# Altium footprint library Sheye-IC.PcbLib: 58 footprints (part 4 of 4)
Each footprint in its own frame and in the unit in brackets; x right, y up, seen from the top. Pads: shape width x height; smd on the part's side, far side on the other; paste and mask are expansions set on the pad; w line width, h text height; cw(c..) or ccw(c..) is an arc to the next point about the centre after c.
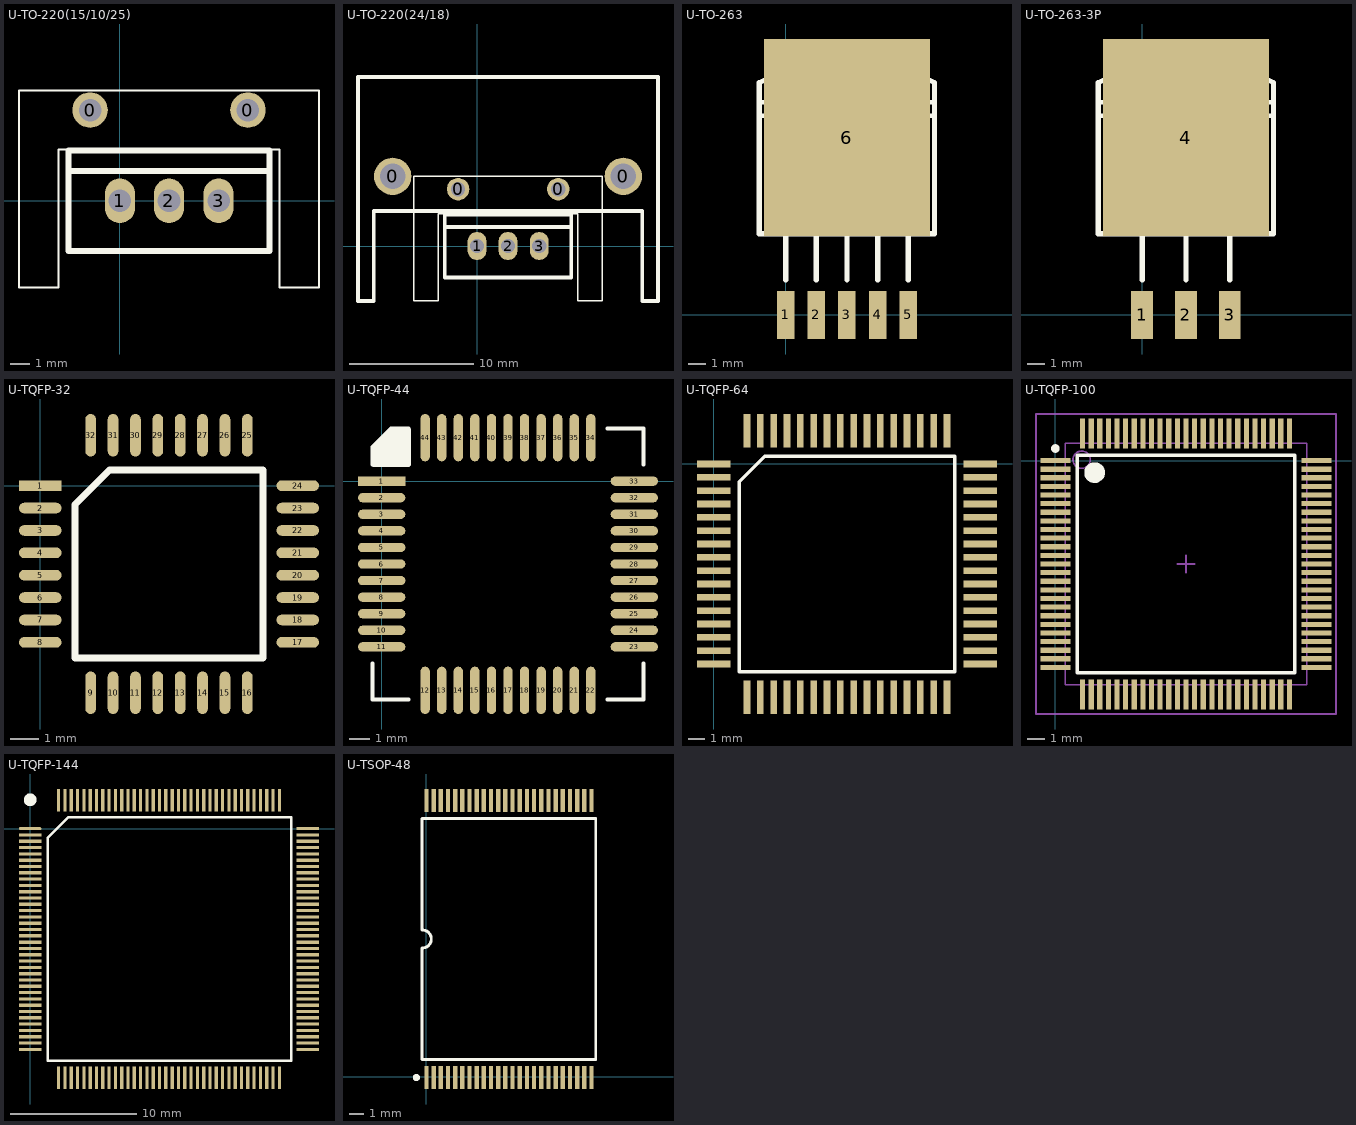
[diagram p3: the footprints below, top view; thin cyan lines are the x and y axes]

## U-TO-220(15/10/25) [mil]
pads (5):
  round 70.87 hole 45: 0(-59.48,181.1) 0(255.48,181.1)
  oval 60x89 hole 45: 1(0,0) 2(98,0) 3(197,0)
Top Overlay:
  lines w4: -201.21,-173.23 -122.47,-173.23 -122.47,102.36 318.47,102.36 318.47,-173.23 397.21,-173.23 397.21,220.47 -201.21,220.47 -201.21,-173.23
  lines w12: -102,60 298,60 ; -102,-100 298,-100 298,100 -102,100 -102,-100
3D body: height 150, standoff -40, extent 176,-4 216,6
3D body: height 150, standoff -40, extent 77,-4 117,6
3D body: height 150, standoff -40, extent -21,-4 19,6
3D body: height 850, standoff 550, extent -101,61 299,101
3D body: height 550, standoff 150, extent -101,-79 299,101
3D body: height 984.25, standoff 0, extent -201.19,-173.21 397.19,220.45

## U-TO-220(24/18) [mil]
pads (7):
  round 118.11 hole 80: 0(-267,220.5) 0(463,220.5)
  round 70.87 hole 45: 0(-60,180) 0(257,180)
  oval 60x89 hole 45: 1(0,0) 2(98,0) 3(197,0)
Top Overlay:
  lines w4: -201.21,-173.23 -201.21,220.47 397.21,220.47 397.21,-173.23 318.47,-173.23 318.47,102.36 -122.47,102.36 -122.47,-173.23 -201.21,-173.23
  lines w12: -102,-100 -102,100 ; -102,-100 298,-100 ; -102,-100 -102,100 ; -102,-100 298,-100 ; -102,100 298,100 ; -102,100 298,100 ; 298,-100 298,100 ; 298,-100 298,100 ; -377,-174.5 -327,-174.5 -327,110.5 523,110.5 523,-174.5 573,-174.5 573,535.5 -377,535.5 -377,-174.5 ; -102,60 298,60 -102,60
3D body: height 550, standoff 150, extent -101,-79 299,101
3D body: height 850, standoff 550, extent -101,61 299,101
3D body: height 150, standoff -40, extent -21,-4 19,6
3D body: height 150, standoff -40, extent 77,-4 117,6
3D body: height 150, standoff -40, extent 176,-4 216,6
3D body: height 984.25, standoff 0, extent -380,-169.96 569.96,540
3D body: height 984.25, standoff 0, extent -201.19,-173.21 397.19,220.45
3D body: height 550, standoff 150, extent -101,-79 299,101
3D body: height 850, standoff 550, extent -101,61 299,101
3D body: height 150, standoff -40, extent -21,-4 19,6
3D body: height 150, standoff -40, extent 77,-4 117,6
3D body: height 150, standoff -40, extent 176,-4 216,6

## U-TO-263 [mil]
pads (6):
  rect 40x110 smd: 1(0,0) 2(70,0) 3(140,0) 4(210,0) 5(280,0)
  rect 380x450 smd: 6(140.07,404.76)
Top Overlay:
  circle w10: c8.79,260 r21.21
  lines w10: -60,455 340,455 ; -60,485 340,485
  lines w12: 0,80 0,180 ; 70,80 70,180 ; 140,80 140,180 ; 210,80 210,180 ; 280,80 280,180 ; -60,185 -60,530 10,565 270,565 340,530 340,185 -60,185
3D body: height 10, standoff 0, extent -15,-14 16,191
3D body: height 59.06, standoff 3.94, extent -60,185 340,565
3D body: height 10, standoff 0, extent 54.5,-14.5 85.5,190.5
3D body: height 10, standoff 0, extent 125,-14 156,191
3D body: height 10, standoff 0, extent 195.5,-14 226.5,191
3D body: height 10, standoff 0, extent 265,-14 296,191

## U-TO-263-3P [mil]
pads (4):
  rect 50x110 smd: 1(0,0) 2(100,0) 3(200,0)
  rect 380x450 smd: 4(100.07,404.76)
Top Overlay:
  circle w10: c-31.21,260 r21.21
  lines w10: -100,455 300,455 ; -100,485 300,485
  lines w12: 0,80 0,180 ; 100,80 100,180 ; 200,80 200,180 ; -100,185 300,185 300,530 230,565 -30,565 -100,530 -100,185
3D body: height 10, standoff 0, extent 185,-14 216,191
3D body: height 10, standoff 0, extent 85,-14 116,191
3D body: height 59.06, standoff 3.94, extent -100,185 300,565
3D body: height 10, standoff 0, extent -15,-14 16,191

## U-TQFP-32 [mil]
pads (32):
  rect 60x15 smd: 1(0,0)
  oval 60x15 smd: 2(0,-31.5) 3(0,-62.99) 4(0,-94.49) 5(0,-125.98) 6(0,-157.48) 7(0,-188.98) 8(0,-220.47) 17(362.2,-220.47) 18(362.2,-188.98) 19(362.2,-157.48) 20(362.2,-125.98) 21(362.2,-94.49) 22(362.2,-62.99) 23(362.2,-31.5) 24(362.2,0)
  oval 15x60 smd: 9(70.87,-291.34) 10(102.36,-291.34) 11(133.86,-291.34) 12(165.35,-291.34) 13(196.85,-291.34) 14(228.35,-291.34) 15(259.84,-291.34) 16(291.34,-291.34) 25(291.34,70.87) 26(259.84,70.87) 27(228.35,70.87) 28(196.85,70.87) 29(165.35,70.87) 30(133.86,70.87) 31(102.36,70.87) 32(70.87,70.87)
Top Overlay:
  lines w10: 48.62,-242.72 48.62,-26.38 97.24,22.24 313.58,22.24 313.58,-242.72 48.62,-242.72
3D body: height 59.06, standoff 3.94, extent 0,-291 363,71

## U-TQFP-44 [mm]
pads (44):
  rect 2.286x0.45 smd: 1(0,0)
  oval 2.286x0.45 smd: 2(0,-0.8) 3(0,-1.6) 4(0,-2.4) 5(0,-3.2) 6(0,-4) 7(0,-4.8) 8(0,-5.6) 9(0,-6.4) 10(0,-7.2) 11(0,-8) 23(12.2,-8) 24(12.2,-7.2) 25(12.2,-6.4) 26(12.2,-5.6) 27(12.2,-4.8) 28(12.2,-4) 29(12.2,-3.2) 30(12.2,-2.4) 31(12.2,-1.6) 32(12.2,-0.8) 33(12.2,0)
  oval 0.45x2.286 smd: 12(2.1,-10.1) 13(2.9,-10.1) 14(3.7,-10.1) 15(4.5,-10.1) 16(5.3,-10.1) 17(6.1,-10.1) 18(6.9,-10.1) 19(7.7,-10.1) 20(8.5,-10.1) 21(9.3,-10.1) 22(10.1,-10.1) 34(10.1,2.1) 35(9.3,2.1) 36(8.5,2.1) 37(7.7,2.1) 38(6.9,2.1) 39(6.1,2.1) 40(5.3,2.1) 41(4.5,2.1) 42(3.7,2.1) 43(2.9,2.1) 44(2.1,2.1)
Top Overlay:
  lines w0.2: -0.45,-8.8 -0.45,-10.55 1.3,-10.55 ; -0.45,0.8 -0.45,1.65 0.45,2.55 1.3,2.55 ; 10.9,-10.55 12.65,-10.55 12.65,-8.8 ; 10.9,2.55 12.65,2.55 12.65,0.8
  lines w0.254: 0.6,1.6 0.4,1.4 0.2,1.4 0.7,1.4 0.7,2 0,1.3 0,1.2 0.9,1.2 0.9,2.2 0.6,2.2 -0.2,1.4 -0.2,1 1.1,1 1.1,2.4 0.5,2.4 -0.4,1.5 -0.4,0.8 1.3,0.8 1.3,2.5
3D body: height 1.5, standoff 0.1, extent 0.008,-10.109 12.217,2.108

## U-TQFP-64 [mm]
pads (64):
  rect 2x0.406 smd: 1(0,0) 2(0,-0.8) 3(0,-1.6) 4(0,-2.4) 5(0,-3.2) 6(0,-4) 7(0,-4.8) 8(0,-5.6) 9(0,-6.4) 10(0,-7.2) 11(0,-8) 12(0,-8.8) 13(0,-9.6) 14(0,-10.4) 15(0,-11.2) 16(0,-12) 33(16,-12) 34(16,-11.2) 35(16,-10.4) 36(16,-9.6) 37(16,-8.8) 38(16,-8) 39(16,-7.2) 40(16,-6.4) 41(16,-5.6) 42(16,-4.8) 43(16,-4) 44(16,-3.2) 45(16,-2.4) 46(16,-1.6) 47(16,-0.8) 48(16,0)
  rect 0.406x2 smd: 17(2,-14) 18(2.8,-14) 19(3.6,-14) 20(4.4,-14) 21(5.2,-14) 22(6,-14) 23(6.8,-14) 24(7.6,-14) 25(8.4,-14) 26(9.2,-14) 27(10,-14) 28(10.8,-14) 29(11.6,-14) 30(12.4,-14) 31(13.2,-14) 32(14,-14) 49(14,2) 50(13.2,2) 51(12.4,2) 52(11.6,2) 53(10.8,2) 54(10,2) 55(9.2,2) 56(8.4,2) 57(7.6,2) 58(6.8,2) 59(6,2) 60(5.2,2) 61(4.4,2) 62(3.6,2) 63(2.8,2) 64(2,2)
Top Overlay:
  lines w0.2: 1.535,-12.465 1.535,-1.07 3.07,0.465 14.465,0.465 14.465,-12.465 1.535,-12.465
3D body: height 1.5, standoff 0.1, extent 0.025,-14.072 16.027,2.032

## U-TQFP-100 [mm] "TSQFP, 100-Leads, Body 16.2x16.2mm (max), Pitch 0.50mm, IPC Medium Density"
height 1.6
pads (100):
  rect 1.75x0.3 smd: 1(0,0) 2(0,-0.5) 3(0,-1) 4(0,-1.5) 5(0,-2) 6(0,-2.5) 7(0,-3) 8(0,-3.5) 9(0,-4) 10(0,-4.5) 11(0,-5) 12(0,-5.5) 13(0,-6) 14(0,-6.5) 15(0,-7) 16(0,-7.5) 17(0,-8) 18(0,-8.5) 19(0,-9) 20(0,-9.5) 21(0,-10) 22(0,-10.5) 23(0,-11) 24(0,-11.5) 25(0,-12) 51(15.15,-12) 52(15.15,-11.5) 53(15.15,-11) 54(15.15,-10.5) 55(15.15,-10) 56(15.15,-9.5) 57(15.15,-9) 58(15.15,-8.5) 59(15.15,-8) 60(15.15,-7.5) 61(15.15,-7) 62(15.15,-6.5) 63(15.15,-6) 64(15.15,-5.5) 65(15.15,-5) 66(15.15,-4.5) 67(15.15,-4) 68(15.15,-3.5) 69(15.15,-3) 70(15.15,-2.5) 71(15.15,-2) 72(15.15,-1.5) 73(15.15,-1) 74(15.15,-0.5) 75(15.15,0)
  rect 0.3x1.75 smd: 26(1.575,-13.575) 27(2.075,-13.575) 28(2.575,-13.575) 29(3.075,-13.575) 30(3.575,-13.575) 31(4.075,-13.575) 32(4.575,-13.575) 33(5.075,-13.575) 34(5.575,-13.575) 35(6.075,-13.575) 36(6.575,-13.575) 37(7.075,-13.575) 38(7.575,-13.575) 39(8.075,-13.575) 40(8.575,-13.575) 41(9.075,-13.575) 42(9.575,-13.575) 43(10.075,-13.575) 44(10.575,-13.575) 45(11.075,-13.575) 46(11.575,-13.575) 47(12.075,-13.575) 48(12.575,-13.575) 49(13.075,-13.575) 50(13.575,-13.575) 76(13.575,1.575) 77(13.075,1.575) 78(12.575,1.575) 79(12.075,1.575) 80(11.575,1.575) 81(11.075,1.575) 82(10.575,1.575) 83(10.075,1.575) 84(9.575,1.575) 85(9.075,1.575) 86(8.575,1.575) 87(8.075,1.575) 88(7.575,1.575) 89(7.075,1.575) 90(6.575,1.575) 91(6.075,1.575) 92(5.575,1.575) 93(5.075,1.575) 94(4.575,1.575) 95(4.075,1.575) 96(3.575,1.575) 97(3.075,1.575) 98(2.575,1.575) 99(2.075,1.575) 100(1.575,1.575)
Top Overlay:
  circle w0.25: c0,0.7 r0.125
  circle w0.6: c2.275,-0.7 r0.3
  lines w0.2: 1.275,-12.3 1.275,0.3 13.875,0.3 13.875,-12.3 1.275,-12.3
Mechanical 13:
  circle w0.1: c1.525,0.05 r0.5
  lines w0.1: 0.575,-13 0.575,1 14.575,1 14.575,-13 0.575,-13
Mechanical 15:
  lines w0.1: 7.075,-6 8.075,-6 ; 7.575,-6.5 7.575,-5.5 ; -1.125,-14.7 -1.125,2.7 16.275,2.7 16.275,-14.7 -1.125,-14.7
3D body: height 1.6, standoff 0.05, extent 0.575,-13 14.575,1

## U-TQFP-144 [mil] "TSQFP, 144-Leads, Body 22.1x22.1mm (max), Pitch 0.50mm, IPC Medium Density"
height 62.99
pads (144):
  oval 70x10 smd: 1(0,0)
  rect 70x10 smd: 2(0,-19.68) 3(0,-39.37) 4(0,-59.05) 5(0,-78.74) 6(0,-98.42) 7(0,-118.11) 8(0,-137.79) 9(0,-157.48) 10(0,-177.16) 11(0,-196.85) 12(0,-216.53) 13(0,-236.22) 14(0,-255.91) 15(0,-275.59) 16(0,-295.27) 17(0,-314.96) 18(0,-334.64) 19(0,-354.33) 20(0,-374.01) 21(0,-393.7) 22(0,-413.38) 23(0,-433.07) 24(0,-452.75) 25(0,-472.44) 26(0,-492.12) 27(0,-511.81) 28(0,-531.5) 29(0,-551.18) 30(0,-570.87) 31(0,-590.55) 32(0,-610.24) 33(0,-629.92) 34(0,-649.61) 35(0,-669.29) 36(0,-688.98) 73(866.46,-688.98) 74(866.46,-669.29) 75(866.46,-649.61) 76(866.46,-629.92) 77(866.46,-610.24) 78(866.46,-590.55) 79(866.46,-570.87) 80(866.46,-551.18) 81(866.46,-531.5) 82(866.46,-511.81) 83(866.46,-492.12) 84(866.46,-472.44) 85(866.46,-452.75) 86(866.46,-433.07) 87(866.46,-413.38) 88(866.46,-393.7) 89(866.46,-374.01) 90(866.46,-354.33) 91(866.46,-334.64) 92(866.46,-314.96) 93(866.46,-295.27) 94(866.46,-275.59) 95(866.46,-255.91) 96(866.46,-236.22) 97(866.46,-216.53) 98(866.46,-196.85) 99(866.46,-177.16) 100(866.46,-157.48) 101(866.46,-137.79) 102(866.46,-118.11) 103(866.46,-98.42) 104(866.46,-78.74) 105(866.46,-59.05) 106(866.46,-39.37) 107(866.46,-19.68) 108(866.46,0)
  rect 10x70 smd: 37(88.74,-777.72) 38(108.43,-777.72) 39(128.11,-777.72) 40(147.8,-777.72) 41(167.48,-777.72) 42(187.17,-777.72) 43(206.85,-777.72) 44(226.54,-777.72) 45(246.22,-777.72) 46(265.91,-777.72) 47(285.59,-777.72) 48(305.28,-777.72) 49(324.96,-777.72) 50(344.65,-777.72) 51(364.33,-777.72) 52(384.02,-777.72) 53(403.7,-777.72) 54(423.39,-777.72) 55(443.07,-777.72) 56(462.76,-777.72) 57(482.44,-777.72) 58(502.13,-777.72) 59(521.81,-777.72) 60(541.5,-777.72) 61(561.18,-777.72) 62(580.87,-777.72) 63(600.55,-777.72) 64(620.24,-777.72) 65(639.92,-777.72) 66(659.61,-777.72) 67(679.29,-777.72) 68(698.98,-777.72) 69(718.66,-777.72) 70(738.35,-777.72) 71(758.03,-777.72) 72(777.72,-777.72) 109(777.72,88.74) 110(758.03,88.74) 111(738.35,88.74) 112(718.66,88.74) 113(698.98,88.74) 114(679.29,88.74) 115(659.61,88.74) 116(639.92,88.74) 117(620.24,88.74) 118(600.55,88.74) 119(580.87,88.74) 120(561.18,88.74) 121(541.5,88.74) 122(521.81,88.74) 123(502.13,88.74) 124(482.44,88.74) 125(462.76,88.74) 126(443.07,88.74) 127(423.39,88.74) 128(403.7,88.74) 129(384.02,88.74) 130(364.33,88.74) 131(344.65,88.74) 132(324.96,88.74) 133(305.28,88.74) 134(285.59,88.74) 135(265.91,88.74) 136(246.22,88.74) 137(226.54,88.74) 138(206.85,88.74) 139(187.17,88.74) 140(167.48,88.74) 141(147.8,88.74) 142(128.11,88.74) 143(108.43,88.74) 144(88.74,88.74)
Top Overlay:
  circle w20: c0,90 r10
  lines w7.87: 55,-725 815,-725 815,35 118.03,35 55,-28.03 55,-725
3D body: height 78.74, standoff 0, extent 60,-715 805,30

## U-TSOP-48 [mm] "Shrink Small Outline, Plastic, Thin; 48 Leads; Body Width 18.4 mm; Pitch 0.5 mm"
height 1.2
pads (48):
  rect 0.3x1.6 smd: 1(0,-0.051) 2(0.5,-0.051) 3(1,-0.051) 4(1.5,-0.051) 5(2,-0.051) 6(2.5,-0.051) 7(3,-0.051) 8(3.5,-0.051) 9(4,-0.051) 10(4.5,-0.051) 11(5,-0.051) 12(5.5,-0.051) 13(6,-0.051) 14(6.5,-0.051) 15(7,-0.051) 16(7.5,-0.051) 17(8,-0.051) 18(8.5,-0.051) 19(9,-0.051) 20(9.5,-0.051) 21(10,-0.051) 22(10.5,-0.051) 23(11,-0.051) 24(11.5,-0.051) 25(11.5,19.251) 26(11,19.251) 27(10.5,19.251) 28(10,19.251) 29(9.5,19.251) 30(9,19.251) 31(8.5,19.251) 32(8,19.251) 33(7.5,19.251) 34(7,19.251) 35(6.5,19.251) 36(6,19.251) 37(5.5,19.251) 38(5,19.251) 39(4.5,19.251) 40(4,19.251) 41(3.5,19.251) 42(3,19.251) 43(2.5,19.251) 44(2,19.251) 45(1.5,19.251) 46(1,19.251) 47(0.5,19.251) 48(0,19.251)
Top Overlay:
  circle w0.25: c-0.7,-0.051 r0.125
  lines w0.2: -0.3,1.2 11.8,1.2 11.8,18 -0.3,18 -0.3,10.235 cw(c-0.3,9.6) -0.3,8.965 -0.3,1.2
3D body: height 1.2, standoff 0, extent -0.295,-0.509 11.805,19.691